# EAGLE library part ALPS-RKJXK1224 (library jt-switches)
ALPS RKJXK1224 analogue joystick (with switch)
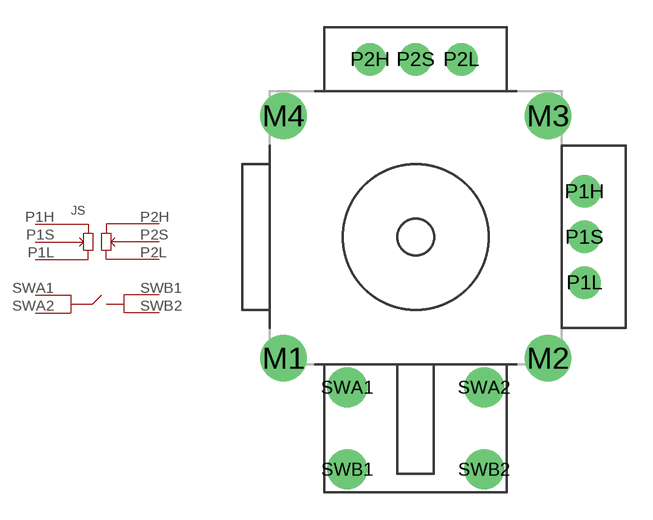
[diagram p3: symbol with the pads of RKJXK1224; footprint RKJXK1224]

Designator prefix JS

## ALPS-RKJXK1224  [RKJXK1224]
P1H  P1H
P1L  P1L
P1S  P1S
P2H  P2H
P2L  P2L
P2S  P2S
SWA1  SWA1
SWA2  SWA2
SWB1  SWB1
SWB2  SWB2

## Footprint RKJXK1224 (pad centres in mm)
ALPS RKJXK1224 analogue joystick
drill 1.5 pad 2.54 round: M1 -7.25,-6.65; M2 7.25,-6.65; M3 7.25,6.65; M4 -7.25,6.65
drill 1 pad 1.778 round: P1H 9.25,2.5; P1L 9.25,-2.5; P1S 9.25,0; P2H -2.5,9.75; P2L 2.5,9.75; P2S 0,9.75
drill 1.3 pad 2.184 round: SWA1 -3.75,-8.25; SWA2 3.75,-8.25; SWB1 -3.75,-12.75; SWB2 3.75,-12.75